# EAGLE library part SATA_POWER_AND_DATA (library geusebio)
3M Vertical SATA Power & Data connector
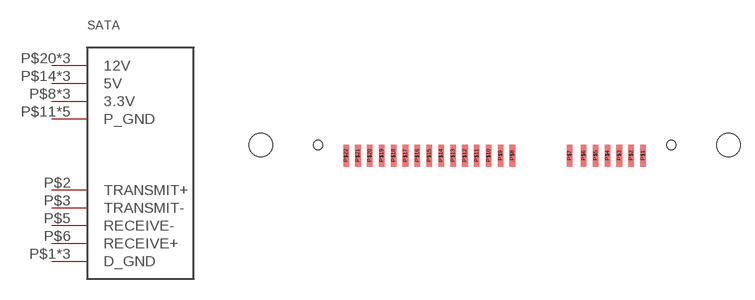
[diagram p0: symbol with the pads of 3M-SATA-5622-1200-ML; footprint 3M-SATA-5622-1200-ML]

Designator prefix -

## SATA_POWER_AND_DATA  [3M-SATA-5622-1200-ML]
P$1  D_GND
P$2  TRANSMIT+
P$3  TRANSMIT-
P$4  D_GND
P$5  RECEIVE-
P$6  RECEIVE+
P$7  D_GND
P$8  3.3V
P$9  3.3V
P$10  3.3V
P$11  P_GND
P$12  P_GND
P$13  P_GND
P$14  5V
P$15  5V
P$16  5V
P$17  P_GND
P$19  P_GND
P$20  12V
P$21  12V
P$22  12V

## Footprint 3M-SATA-5622-1200-ML (pad centres in mm)
3M Vertical SATA port, as per http://www.farnell.com/datasheets/674930.pdf
smd 0.6 x 2.35: P$1 40.87,-1.125; P$2 39.6,-1.125; P$3 38.33,-1.125; P$4 37.06,-1.125; P$5 35.79,-1.125; P$6 34.52,-1.125; P$7 33.02,-1.125; P$8 26.9,-1.125; P$9 25.63,-1.125; P$10 24.36,-1.125; P$11 23.09,-1.125; P$12 21.82,-1.125; P$13 20.55,-1.125; P$14 19.28,-1.125; P$15 18.01,-1.125; P$16 16.74,-1.125; P$17 15.47,-1.125; P$18 14.2,-1.125; P$19 12.93,-1.125; P$20 11.66,-1.125; P$21 10.39,-1.125; P$22 9.12,-1.125
hole 2.55 at 0,0
hole 2.55 at 50,0
hole 1 at 43.875,0
hole 1 at 6.125,0